# Altium footprint library SamacSys.PcbLib: 3 footprints
Each footprint in its own frame and in the unit in brackets; x right, y up, seen from the top. Pads: shape width x height; smd on the part's side, far side on the other; paste and mask are expansions set on the pad; w line width, h text height; cw(c..) or ccw(c..) is an arc to the next point about the centre after c.
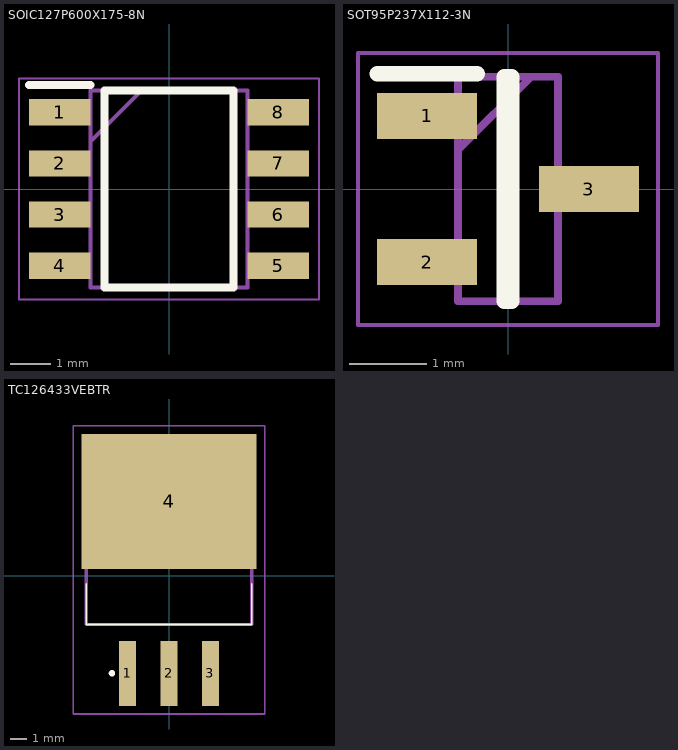
[diagram p0: the footprints below, top view; thin cyan lines are the x and y axes]

## SOIC127P600X175-8N [mm]
pads (8):
  rect 1.525x0.65 smd: 1(-2.712,1.905) 2(-2.712,0.635) 3(-2.712,-0.635) 4(-2.712,-1.905) 5(2.712,-1.905) 6(2.712,-0.635) 7(2.712,0.635) 8(2.712,1.905)
Top Overlay:
  lines w0.2: -3.475,2.58 -1.95,2.58 ; -1.6,-2.45 1.6,-2.45 1.6,2.45 -1.6,2.45 -1.6,-2.45
Mechanical 13:
  lines w0.1: -1.95,1.18 -0.68,2.45 ; -1.95,-2.45 1.95,-2.45 1.95,2.45 -1.95,2.45 -1.95,-2.45
Mechanical 15:
  lines w0.05: -3.725,-2.75 3.725,-2.75 3.725,2.75 -3.725,2.75 -3.725,-2.75
3D body "NE555DR.stp": height 1.75, standoff 0, extent -3,-2.45 3,2.45

## SOT95P237X112-3N [mm]
pads (3):
  rect 1.3x0.6 smd: 1(-1.05,0.95) 2(-1.05,-0.95) 3(1.05,0)
Top Overlay:
  lines w0.2: -1.7,1.5 -0.4,1.5 ; -0.05,-1.46 -0.05,1.46 0.05,1.46 0.05,-1.46 -0.05,-1.46
Mechanical 13:
  lines w0.1: -0.65,0.51 0.3,1.46 ; -0.65,-1.46 -0.65,1.46 0.65,1.46 0.65,-1.46 -0.65,-1.46
Mechanical 15:
  lines w0.05: -1.95,-1.77 -1.95,1.77 1.95,1.77 1.95,-1.77 -1.95,-1.77
3D body "IRLM6402.stp": height 1.12, standoff 0, extent -1.185,-1.46 1.185,1.46

## TC126433VEBTR [mm]
pads (4):
  rect 1.041x3.988 smd: 1(-2.54,-6.009) 2(0,-6.009) 3(2.54,-6.009)
  rect 10.744x8.306 smd: 4(0,4.545)
Top Overlay:
  lines w0.1: -5.08,-0.508 -5.08,-3.008 5.08,-3.008 5.08,-0.508
  lines w0.2: -3.5,-6.1 ccw(c-3.5,-6) -3.5,-5.9 ccw(c-3.5,-6) -3.5,-6.1
Mechanical 13:
  lines w0.2: -5.08,-3.008 -5.08,6.008 5.08,6.008 5.08,-3.008 -5.08,-3.008
Mechanical 15:
  lines w0.1: -5.872,-8.502 -5.872,9.198 5.872,9.198 5.872,-8.502 -5.872,-8.502